# Altium footprint library ESDSBLC24VLB-TP.PcbLib: 3 footprints
Each footprint in its own frame and in the unit in brackets; x right, y up, seen from the top. Pads: shape width x height; smd on the part's side, far side on the other; paste and mask are expansions set on the pad; w line width, h text height; cw(c..) or ccw(c..) is an arc to the next point about the centre after c.
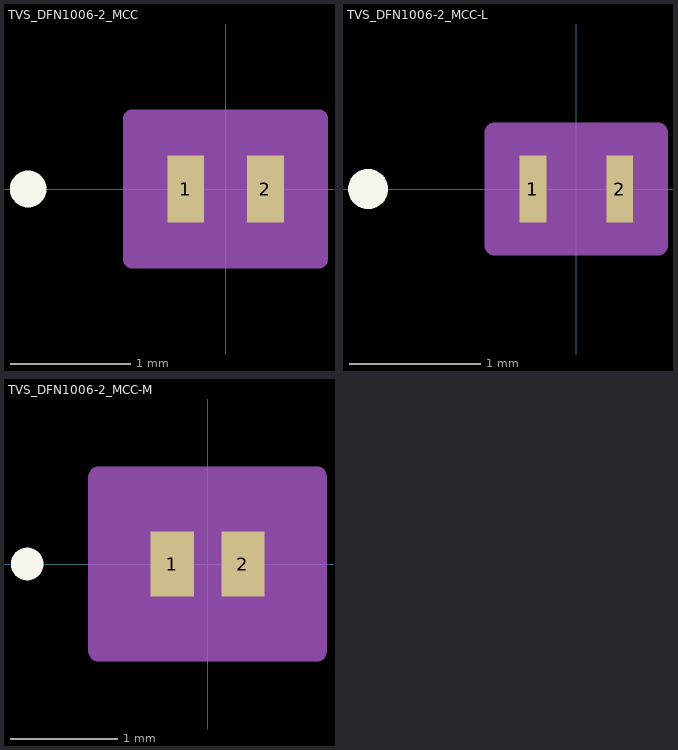
[diagram p0: the footprints below, top view; thin cyan lines are the x and y axes]

## TVS_DFN1006-2_MCC [mil]
pads (2):
  rect 12x22 smd paste+0 mask-1: 1(-13,0) 2(13,0)
Top Overlay:
  circle w6: c-64.5,0 r3
Mechanical 13:
  circle w0: c0,0 r3
  lines w1: -20.5,-13 20.5,-13 20.5,13 -20.5,13 -20.5,-13
Mechanical 15:
  region: -30.5,-21 -30.5,21 -30.5,23 30.5,23 30.5,21 30.5,-21 30.5,-23 -30.5,-23
  lines w6: -30.5,-21 -30.5,21 ; -30.5,-21 -30.5,-21 ; -30.5,-21 -30.5,-23 30.5,-23 30.5,-21 ; -30.5,21 -30.5,21 ; -30.5,21 -30.5,23 30.5,23 30.5,21 ; 30.5,-21 30.5,21 ; 30.5,-21 30.5,-21 ; 30.5,21 30.5,21
3D body "TVS_DFN1006-2_MCC.step": height 22.09, standoff 0, extent -20.51,-12.99 20.51,12.99

## TVS_DFN1006-2_MCC-L [mil]
pads (2):
  rect 8x20 smd paste+0 mask+0: 1(-13,0) 2(13,0)
Top Overlay:
  circle w6: c-62.5,0 r3
Mechanical 13:
  circle w0: c0,0 r3
  lines w1: -20.5,-13 20.5,-13 20.5,13 -20.5,13 -20.5,-13
Mechanical 15:
  region: -24.5,-14 -24.5,14 -24.5,17 24.5,17 24.5,14 24.5,-14 24.5,-17 -24.5,-17
  lines w6: -24.5,-14 -24.5,14 ; -24.5,-14 -24.5,-14 ; -24.5,-14 -24.5,-17 24.5,-17 24.5,-14 ; -24.5,14 -24.5,14 ; -24.5,14 -24.5,17 24.5,17 24.5,14 ; 24.5,-14 24.5,14 ; 24.5,-14 24.5,-14 ; 24.5,14 24.5,14
3D body "TVS_DFN1006-2_MCC.step": height 22.09, standoff 0, extent -20.51,-12.99 20.51,12.99

## TVS_DFN1006-2_MCC-M [mil]
pads (2):
  rect 16x24 smd paste+0 mask+0: 1(-13,0) 2(13,0)
Top Overlay:
  circle w6: c-66.5,0 r3
Mechanical 13:
  circle w0: c0,0 r3
  lines w1: -20.5,-13 20.5,-13 20.5,13 -20.5,13 -20.5,-13
Mechanical 15:
  region: -40.5,-32 -41,-32 -41,32 -40.5,32 -40.5,33 40.5,33 40.5,32 41,32 41,-32 40.5,-32 40.5,-33 -40.5,-33
  lines w6: -41,-32 -41,32 -40.5,32 -40.5,33 40.5,33 40.5,32 41,32 41,-32 40.5,-32 40.5,-33 -40.5,-33 -40.5,-32 -41,-32
3D body "TVS_DFN1006-2_MCC.step": height 22.09, standoff 0, extent -20.51,-12.99 20.51,12.99